# EAGLE library part 8PIN_CONNECTOR (library MABOS_components)
CONN IC DIP SOCKET 8POS TIN
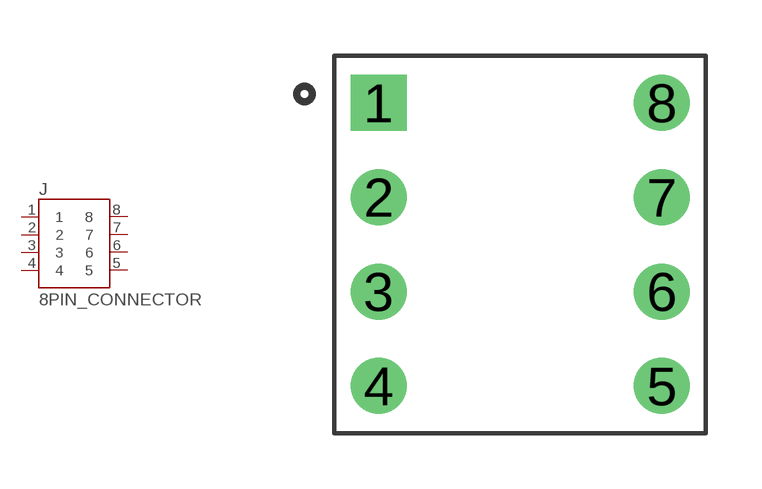
[diagram p3: symbol with the pads of TE_1-2199298-2; footprint TE_1-2199298-2]

Designator prefix J

## 8PIN_CONNECTOR (MANUFACTURER: TE Connectivity; PARTREV: A; STANDARD: Manufacturer Recommendations)  [TE_1-2199298-2]
1  1  pas
2  2  pas
3  3  pas
4  4  pas
5  5  pas
6  6  pas
7  7  pas
8  8  pas

## Footprint TE_1-2199298-2 (pad centres in mm)
drill 1 square: 1 -3.81,3.81
drill 1: 2 -3.81,1.27; 3 -3.81,-1.27; 4 -3.81,-3.81; 5 3.81,-3.81; 6 3.81,-1.27; 7 3.81,1.27; 8 3.81,3.81